# Altium schematic symbol library CRYSTAL.SchLib: 1 symbol
Pins are listed as number, name and electrical type; pins without a type are passive.

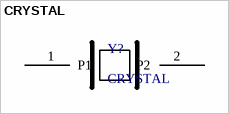
[diagram p0: symbol CRYSTAL]

## CRYSTAL
designator Y?
Crystal oscillator symbol
pins: 1 P1, 2 P2